# Altium integrated library Memory_Chips.IntLib: 4 symbols
Pins are listed as number, name and electrical type; pins without a type are passive.

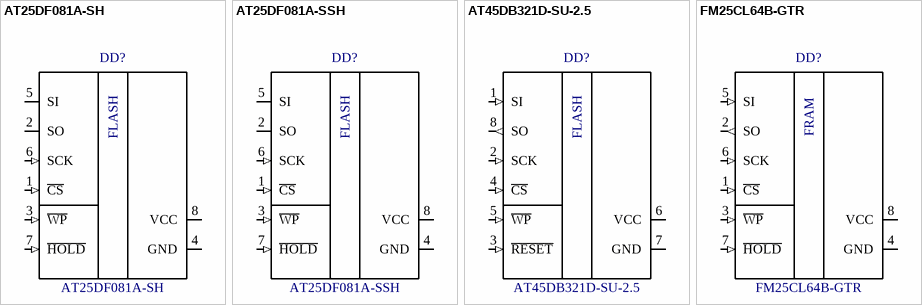
[diagram p0: symbols AT25DF081A-SH to FM25CL64B-GTR]

## AT25DF081A-SH
designator DD?
Dual SPI NOR-Flash 8 Mbit; Manufacturer: Dialog Semiconductor; 1Cname: Микросхема AT25DF081A-SH; 1Ccode: М00043936; 1Cgroup: 01010102; 1Carticle: 32941; Name: Мисхосхема памяти AT25DF081A-SH; 1CfullName: Микросхема AT25DF081A-SH; PartNumber: AT25DF081A-SH; ComponentLink1Description: DatasheetLink; ComponentLink1URL: https://www.renesas.com/eu/en/document/dst/at25df081a-datasheet; Case: SOIC-8-W
footprint SOIC-8-W (SOIC, 8-Leads, Body 5,24x5,29mm, Pitch 1,27mm, IPC Low Density)
pins: 1 ~{CS} (in), 2 SO (io), 3 ~{WP} (in), 4 GND (power), 5 SI (io), 6 SCK (in), 7 ~{HOLD} (in), 8 VCC (power)
text: FLASH

## AT25DF081A-SSH
designator DD?
Dual SPI NOR-Flash 8 Mbit; Manufacturer: Dialog Semiconductor; 1Cname: AT25DF081A-SSH-B (AT26DF081A-SSU); 1Ccode: М00026103; 1Cgroup: 01010102; 1Carticle: 15408; Name: Мисхосхема памяти AT25DF081A-SSH; 1CfullName: AT25DF081A-SSH-B (AT26DF081A-SSU); PartNumber: AT25DF081A-SSH; ComponentLink1Description: DatasheetLink; ComponentLink1URL: https://www.renesas.com/eu/en/document/dst/at25df081a-datasheet; Case: SOIC-8
footprint SOIC-8 (SOIC, 8-Leads, Body 4,90x3,90mm, Pitch 1,27mm, IPC Low Density)
pins: 1 ~{CS} (in), 2 SO (io), 3 ~{WP} (in), 4 GND (power), 5 SI (io), 6 SCK (in), 7 ~{HOLD} (in), 8 VCC (power)
text: FLASH

## AT45DB321D-SU-2.5
designator DD?
32Mb, 2.5V or 2.7V Serial Flash Memory; 1Cname: *; 1Ccode: *; 1CfullName: *; 1Cgroup: *; 1Carticle: *; Manufacturer: *; Name: *; PartNumber: *; ComponentLink1Description: DatasheetLink; ComponentLink1URL: *; Case: SOIC-8
footprint SOIC-8-W (SOIC, 8-Leads, Body 5,24x5,29mm, Pitch 1,27mm, IPC Low Density)
pins: 1 SI (in), 2 SCK (in), 3 ~{RESET} (in), 4 ~{CS} (in), 5 ~{WP} (in), 6 VCC (power), 7 GND (power), 8 SO (out)
text: FLASH

## FM25CL64B-GTR
designator DD?
F-RAM 64kbit Serial SPI 3V FRAM; Manufacturer: Infineon; 1Cname: FM25CL64B-GTR Ramtron; 1Ccode: М00027840; 1Cgroup: 01010102; 1Carticle: 16442; Name: Мисхосхема памяти FM25CL64B-GTR; 1CfullName: FM25CL64B-GTR Ramtron; PartNumber: FM25CL64B-GTR; ComponentLink1Description: DatasheetLink; ComponentLink1URL: https://www.renesas.com/eu/en/document/dst/at25df081a-datasheet; Case: SOIC-8
footprint SOIC-8 (SOIC, 8-Leads, Body 4,90x3,90mm, Pitch 1,27mm, IPC Low Density)
pins: 1 ~{CS} (in), 2 SO (out), 3 ~{WP} (in), 4 GND (power), 5 SI (in), 6 SCK (in), 7 ~{HOLD} (in), 8 VCC (power)
text: FRAM